# Altium footprint library Модули.PcbLib: 29 footprints (part 2 of 2)
Each footprint in its own frame and in the unit in brackets; x right, y up, seen from the top. Pads: shape width x height; smd on the part's side, far side on the other; paste and mask are expansions set on the pad; w line width, h text height; cw(c..) or ccw(c..) is an arc to the next point about the centre after c.
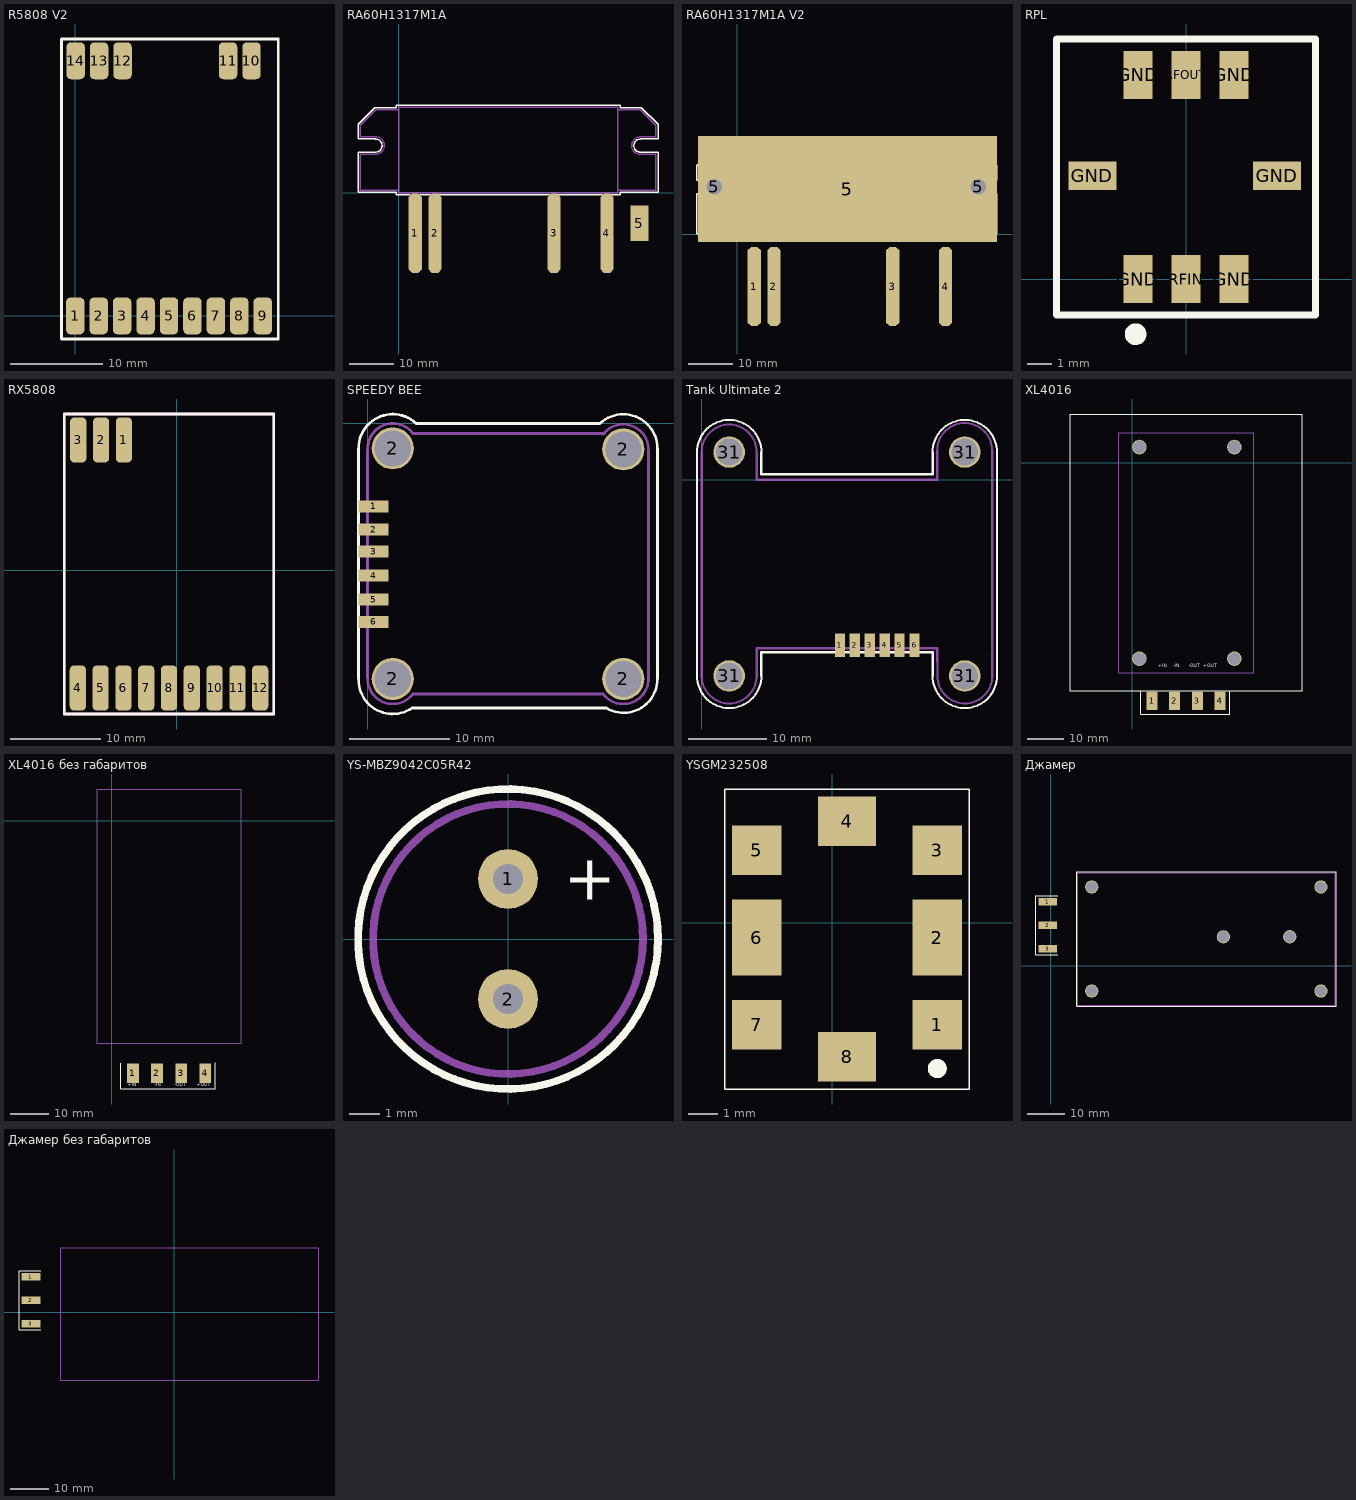
[diagram p1: the footprints below, top view; thin cyan lines are the x and y axes]

## R5808 V2 [mm]
pads (14):
  rrect50% 2x4 smd: 1(0,0) 2(2.54,0) 3(5.08,0) 4(7.62,0) 5(10.16,0) 6(12.7,0) 7(15.24,0) 8(17.78,0) 9(20.32,0) 10(19.096,27.637) 11(16.556,27.637) 12(5.126,27.637) 13(2.586,27.637) 14(0.046,27.637)
Top Overlay:
  lines w0.3: -1.5,-2.5 -1.5,30 22,30 22,-2.5 -1.5,-2.5
3D body: height 3.5, standoff 0, extent -1.3,0 21.8,27.9

## RA60H1317M1A [mm]
pads (5):
  oct 3x18 smd: 1(3.8,-9.2) 2(8.3,-9.2) 3(35.3,-9.2) 4(47.3,-9.2)
  rect 4x8 smd: 5(54.7,-6.9)
Top Overlay:
  lines w0.3: -5.228,9.199 ccw(c-5.228,10.699) -5.228,12.199 ; -5.2,9.2 -9.2,9.2 -9.2,0.1 -0.5,0.1 -0.5,-0.5 2.7,-0.5 ; -5.2,12.2 -9.2,12.2 -9.2,15.5 -5.4,19.3 -0.5,19.3 -0.5,19.9 50.3,19.9 50.3,19.3 55.1,19.3 58.9,15.5 58.9,12.2 54.9,12.2 ccw(c54.9,10.7) 54.9,9.2 58.9,9.2 58.9,0.1 50.3,0.1 50.3,-0.5 48.3,-0.5 ; 4.8,-0.5 7.2,-0.5 ; 9.3,-0.5 34.2,-0.5 ; 36.3,-0.5 46.2,-0.5
Mechanical 15:
  lines w0.3: -5.2,18.8 -8.7,15.3 -8.7,12.7 -5.2,12.7 cw(c-5.2,10.7) -5.2,8.7 -8.7,8.7 -8.7,0.6 0,0.6 ; -5.1,18.8 0,18.8 ; 49.8,0.6 58.4,0.6 58.4,8.7 54.9,8.7 ; 49.8,18.8 54.9,18.8 58.4,15.3 58.4,12.7 54.9,12.7 ; 54.9,8.7 cw(c54.9,10.7) 54.9,12.7 ; 54.9,8.7 cw(c54.9,10.7) 54.9,12.7 ; 0,0 0,19.4 49.8,19.4 49.8,0 0,0
3D body: height 2.6, standoff 0, extent -8.7,0 58.4,19.4
3D body: height 9.9, standoff 2.6, extent 0,0 49.8,19.4

## RA60H1317M1A V2 [mm]
pads (7):
  oct 3x18 smd: 1(3.8,-11.95) 2(8.3,-11.95) 3(35.3,-11.95) 4(47.3,-11.95)
  round 5 / inner round 1.524 / far side round 0 hole 3.5 unplated: 5(-5.25,10.75) 5(54.75,10.75)
  rect 68x24 smd: 5(25,10.25)
Top Overlay:
  lines w0.3: -5.228,9.199 ccw(c-5.228,10.699) -5.228,12.199 ; -5.2,9.2 -9.2,9.2 -9.2,0.1 -0.5,0.1 -0.5,-0.5 2.7,-0.5 ; -5.2,12.2 -9.2,12.2 -9.2,15.5 -5.4,19.3 -0.5,19.3 -0.5,19.9 50.3,19.9 50.3,19.3 55.1,19.3 58.9,15.5 58.9,12.2 54.9,12.2 ccw(c54.9,10.7) 54.9,9.2 58.9,9.2 58.9,0.1 50.3,0.1 50.3,-0.5 48.3,-0.5 ; 4.8,-0.5 7.2,-0.5 ; 9.3,-0.5 34.2,-0.5 ; 36.3,-0.5 46.2,-0.5
Mechanical 15:
  lines w0.3: -5.2,18.8 -8.7,15.3 -8.7,12.7 -5.2,12.7 cw(c-5.2,10.7) -5.2,8.7 -8.7,8.7 -8.7,0.6 0,0.6 ; -5.1,18.8 0,18.8 ; 49.8,0.6 58.4,0.6 58.4,8.7 54.9,8.7 ; 49.8,18.8 54.9,18.8 58.4,15.3 58.4,12.7 54.9,12.7 ; 54.9,8.7 cw(c54.9,10.7) 54.9,12.7 ; 54.9,8.7 cw(c54.9,10.7) 54.9,12.7 ; 0,0 0,19.4 49.8,19.4 49.8,0 0,0
3D body: height 2.6, standoff 0, extent -8.7,0 58.4,19.4
3D body: height 9.9, standoff 2.6, extent 0,0 49.8,19.4

## RPL [mm]
pads (8):
  rect 2x1.2 smd: GND(-3.9,4.3) GND(3.8,4.3)
  rect 1.2x2 smd: GND(-2,0) GND(-2,8.5) GND(2,0) GND(2,8.5) RFIN(0,0) RFOUT(0,8.5)
Top Overlay:
  circle w0.5: c-2.1,-2.3 r0.2
  lines w0.3: -5.4,-1.5 -5.4,10 5.4,10 5.4,-1.5 -5.4,-1.5
3D body: height 2.54, standoff 0, extent -5,-1.1 5,9.6

## RX5808 [mm]
pads (12):
  rrect50% 1.8x5 smd: 1(-5.904,14.517) 2(-8.444,14.517) 3(-10.984,14.517) 4(-11.03,-13.12) 5(-8.49,-13.12) 6(-5.95,-13.12) 7(-3.41,-13.12) 8(-0.87,-13.12) 9(1.67,-13.12) 10(4.21,-13.12) 11(6.75,-13.12) 12(9.29,-13.12)
Top Overlay:
  lines w0.3: -11.81,-16.02 10.79,-16.02 10.79,17.41 -11.73,17.41 ; -11.556,17.41 -12.53,17.41 -12.53,-16.02 -11.533,-16.02
Mechanical 15:
  lines w0.3: -12.53,-16.02 10.79,-16.02 10.79,17.41 -12.53,17.41 -12.53,-16.02
3D body: height 3.5, standoff 0, extent -12.13,-13.12 10.39,14.78

## SPEEDY BEE [mm]
pads (10):
  rect 3x1.2 smd: 1(0.6,-8.3) 2(0.6,-10.6) 3(0.6,-12.8) 4(0.6,-15.2) 5(0.6,-17.6) 6(0.6,-19.8)
  round 4.2 hole 3.6: 2(2.5,-25.5) 2(2.5,-2.5) 2(25.5,-25.5) 2(25.5,-2.6)
Top Overlay:
  lines w0.254: -0.902,-2.475 cw(c2.498,-2.475) 4.8,0.027 ; -0.9,-25.6 ccw(c2.5,-25.6) 4.45,-28.385 ; -0.9,-2.5 cw(c2.5,-2.5) 4.802,0.002 ; 23.198,0.002 cw(c25.5,-2.5) 28.9,-2.5 ; 23.839,-28.433 ccw(c25.526,-25.511) 28.9,-25.511
  lines w0.3: -0.9,-25.5 -0.9,-2.5 ; 4.4,-28.4 23.8,-28.4 ; 4.8,0 23.2,0 ; 28.9,-25.511 28.9,-2.5
Mechanical 15:
  circle w0.254: c25.5,-25.5 r1.5
  circle w0.254: c2.5,-25.5 r1.5
  circle w0.254: c2.5,-2.5 r1.5
  circle w0.254: c25.5,-2.5 r1.5
  lines w0.254: 0,-25.5 ccw(c2.5,-25.5) 4.5,-27 ; 0,-2.5 cw(c2.5,-2.5) 4.5,-1 ; 0.023,-2.527 cw(c2.523,-2.527) 4.523,-1.027 ; 23.5,-27 ccw(c25.5,-25.5) 28,-25.5 ; 23.5,-1.1 cw(c25.5,-2.6) 28,-2.6
  lines w0.3: 0,-25.4 0,-2.6 ; 4.5,-27 23.5,-27 ; 4.5,-1 23.6,-1 ; 28,-25.7 28,-2.6

## Tank Ultimate 2 [mm]
pads (10):
  rect 1.3x3 smd: 1(17.6,-21.1) 2(19.5,-21.1) 3(21.4,-21.1) 4(23.3,-21.1) 5(25.2,-21.1) 6(27.1,-21.1)
  round 4 hole 3.4: 31(3.5,-25) 31(3.5,3.5) 31(33.5,-25) 31(33.5,3.5)
Top Overlay:
  lines w0.254: -0.6,-25 ccw(c3.5,-25) 7.6,-25 ; -0.6,3.5 cw(c3.5,3.5) 7.6,3.5 ; 29.4,-25 ccw(c33.5,-25) 37.6,-25 ; 29.4,3.5 cw(c33.5,3.5) 37.6,3.5
  lines w0.3: -0.6,-25 -0.6,3.5 ; 7.6,-25 7.6,-22 29.4,-22 29.4,-25 ; 7.6,3.5 7.6,0.7 29.4,0.7 29.4,3.5 ; 37.6,-25 37.6,3.5
Mechanical 15:
  lines w0.254: 0,-25 ccw(c3.5,-25) 7,-25 ; 0,3.5 cw(c3.5,3.5) 7,3.5 ; 29.985,3.697 cw(c33.485,3.697) 36.985,3.697 ; 30,-25 ccw(c33.5,-25) 37,-25
  lines w0.3: 0,-21.5 0,0 0,3.5 ; 0.015,-25.197 0.015,-21.697 ; 7,3.5 7,0 30,0 ; 7.015,-25.197 7,-21.5 30,-21.5 30.015,-25.197 ; 29.985,0.197 29.985,3.697 ; 36.985,0.197 36.985,3.697 ; 37,-21.5 37,0 ; 37.015,-25.197 37.015,-21.697
3D body: height 4.1, standoff 0, extent 0,-25.2 37,3.5

## XL4016 [mm]
pads (8):
  rect 3x5 smd: 1(5.41,-65.21) 2(11.61,-65.21) 3(17.831,-65.211) 4(24.03,-65.21)
  round 4 hole 3.5: ""(1.949,-53.649) ""(1.949,4.301) ""(27.949,-53.649) ""(27.95,4.3)
Top Overlay:
  lines w0.05: 2.3,-62.61 2.3,-68.81 26.63,-68.81 26.63,-62.5
  lines w0.2: -17.09,-62.51 -17.09,13.35 46.51,13.35 46.51,-62.51 -17.09,-62.51
  text "+IN    -IN      -OUT  +OUT" at 7.12,-56.463 h1.52
Mechanical 15:
  lines w0.2: -3.89,-57.51 -3.89,8.15 33.31,8.15 33.31,-57.51 -3.89,-57.51

## XL4016 без габаритов [mm]
pads (4):
  rect 3x5 smd: 1(5.41,-65.21) 2(11.61,-65.21) 3(17.831,-65.211) 4(24.03,-65.21)
Top Overlay:
  lines w0.05: 2.3,-62.61 2.3,-69.25 26.63,-69.25 26.63,-62.5
  text "+IN            -IN         -OUT       +OUT" at 4.07,-68.883 h1.52
Mechanical 15:
  lines w0.2: -3.89,-57.51 33.31,-57.51 33.31,8.15 -3.89,8.15 -3.89,-57.51

## YS-MBZ9042C05R42 [mm]
pads (2):
  round 2 hole 1: 1(0,2) 2(0,-2)
Top Overlay:
  circle w0.254: c0,0 r5
  text "+" at 1.854,1.3 h1.52
Mechanical 15:
  circle w0.254: c0,0 r4.5
3D body: height 4.2, standoff 0, extent -4.5,-4.5 4.5,4.5

## YSGM232508 [mm]
pads (8):
  rect 1.7x1.7 / inner round 0 / far side round 0 all layers, no hole: 1(3.6,-3.5) 3(3.6,2.5) 5(-2.6,2.5) 7(-2.6,-3.5)
  rect 1.7x2.6 / inner round 0 / far side round 0 all layers, no hole: 2(3.6,-0.5) 6(-2.6,-0.5)
  rect 2x1.7 / inner round 0 / far side round 0 all layers, no hole: 4(0.5,3.5) 8(0.5,-4.6)
Top Overlay:
  circle w0.35: c3.6,-5 r0.15
  lines w0.05: -3.7,-5.7 -3.7,4.6 4.7,4.6 4.7,-5.7 -3.7,-5.7
3D body: height 2.2, standoff 0, extent -3,-5 4,4

## Джамер [mm]
pads (9):
  rect 5x2 smd: 1(-0.8,16.82) 2(-0.8,10.62) 3(-0.8,4.42)
  round 3.5 hole 3: ""(10.82,-6.72) ""(10.82,20.74) ""(45.562,7.583) ""(63.092,7.593) ""(71.31,-6.72) ""(71.312,20.743)
Top Overlay:
  lines w0.05: 1.8,2.82 -3.9,2.82 -3.9,18.42 1.8,18.42
  lines w0.1: 6.84,-10.71 75.29,-10.71 75.29,24.73 6.84,24.73 6.84,-10.71
Mechanical 15:
  lines w0.2: 7.06,24.51 7.06,-10.49 75.07,-10.49 75.07,24.51 7.07,24.51

## Джамер без габаритов [mm]
pads (3):
  rect 5x2 smd: 1(-37.771,9.398) 2(-37.771,3.198) 3(-37.771,-3.002)
Top Overlay:
  lines w0.05: -35.171,-4.602 -40.871,-4.602 -40.871,10.998 -35.171,10.998
Mechanical 15:
  lines w0.2: -29.911,17.088 -29.911,-17.912 38.099,-17.912 38.099,17.088 -29.901,17.088